# Altium footprint library PCIE_CARD_EDGE_36_1.0MM.PcbLib: 1 footprints
Each footprint in its own frame and in the unit in brackets; x right, y up, seen from the top. Pads: shape width x height; smd on the part's side, far side on the other; paste and mask are expansions set on the pad; w line width, h text height; cw(c..) or ccw(c..) is an arc to the next point about the centre after c.
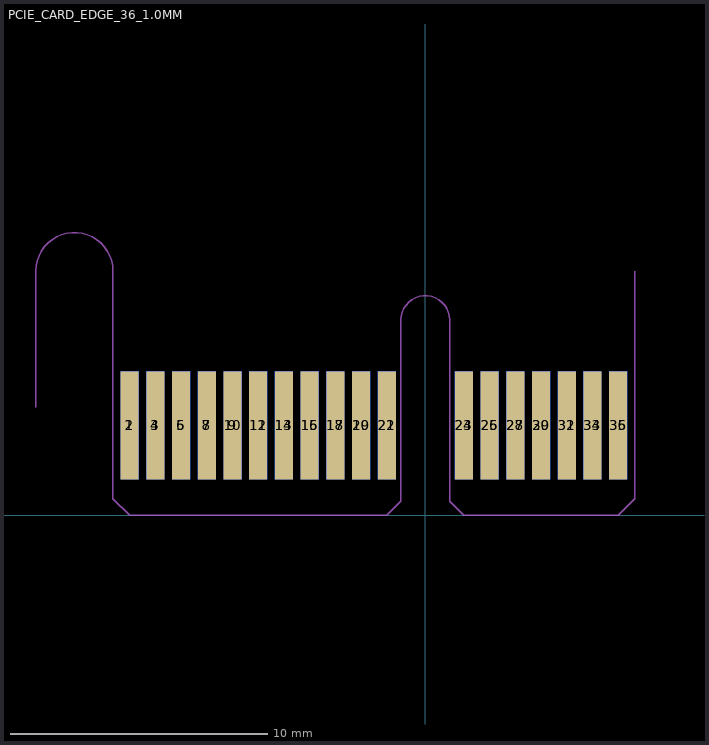
[diagram p0: the footprint, top view; thin cyan lines are the x and y axes]

## PCIE_CARD_EDGE_36_1.0MM [mm] "PCI Express Card Edge, 36-pin 1.0mm Pitch"
pads (36):
  rect 0.7x4.2 smd: 1(-11.5,3.5) 3(-10.5,3.5) 5(-9.5,3.5) 7(-8.5,3.5) 9(-7.5,3.5) 11(-6.5,3.5) 13(-5.5,3.5) 15(-4.5,3.5) 17(-3.5,3.5) 19(-2.5,3.5) 21(-1.5,3.5) 23(1.5,3.5) 25(2.5,3.5) 27(3.5,3.5) 29(4.5,3.5) 31(5.5,3.5) 33(6.5,3.5) 35(7.5,3.5)
  rect 0.7x4.2 smd far side: 2(-11.5,3.5) 4(-10.5,3.5) 6(-9.5,3.5) 8(-8.5,3.5) 10(-7.5,3.5) 12(-6.5,3.5) 14(-5.5,3.5) 16(-4.5,3.5) 18(-3.5,3.5) 20(-2.5,3.5) 22(-1.5,3.5) 24(1.5,3.5) 26(2.5,3.5) 28(3.5,3.5) 30(4.5,3.5) 32(5.5,3.5) 34(6.5,3.5) 36(7.5,3.5)
Top Solder:
  region: 0.95,5.7 0.95,0.55 1.5,0 7.5,0 8.15,0.65 8.15,5.7
  region: -12.15,5.7 -12.15,0.65 -11.5,0 -1.5,0 -0.95,0.55 -0.95,5.7
  region: -12.15,5.7
Bottom Solder:
  region: -12.15,5.7 -12.15,0.65 -11.5,0 -1.5,0 -0.95,0.55 -0.95,5.7
  region: 0.95,5.7 0.95,0.55 1.5,0 7.5,0 8.15,0.65 8.15,5.7
Mechanical 1:
  lines w0.05: -15.15,4.2 -15.15,9.5 cw(c-13.65,9.5) -12.15,9.5 -12.15,0.65 -11.5,0 -1.5,0 -0.95,0.55 -0.95,7.6 cw(c0,7.6) 0.95,7.6 0.95,0.55 1.5,0 7.5,0 8.15,0.65 8.15,9.5